# EAGLE library part 3PDT (library 00_steve)
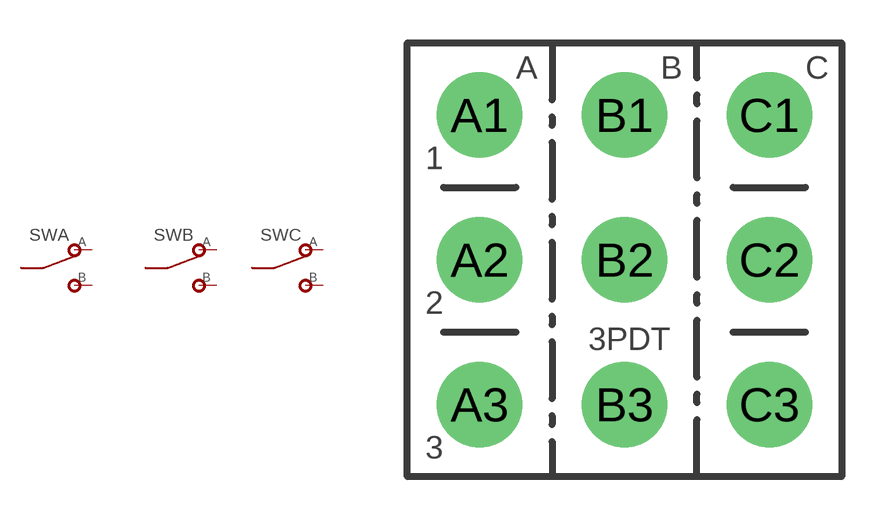
[diagram p2: symbol with the pads of 3PDT; footprint 3PDT]

Designator prefix SW; gates A=SPDT B=SPDT C=SPDT

## 3PDT  [3PDT]
A1  A:A  pas
A2  A:COM  pas
A3  A:B  pas
B1  B:A  pas
B2  B:COM  pas
B3  B:B  pas
C1  C:A  pas
C2  C:COM  pas
C3  C:B  pas

## Footprint 3PDT (pad centres in mm)
drill 2: A1 -5.08,5.08; A2 -5.08,0; A3 -5.08,-5.08; B1 0,5.08; B2 0,0; B3 0,-5.08; C1 5.08,5.08; C2 5.08,0; C3 5.08,-5.08